# Altium footprint library Cosmos.PcbLib: 23 footprints (part 2 of 2)
Each footprint in its own frame and in the unit in brackets; x right, y up, seen from the top. Pads: shape width x height; smd on the part's side, far side on the other; paste and mask are expansions set on the pad; w line width, h text height; cw(c..) or ccw(c..) is an arc to the next point about the centre after c.
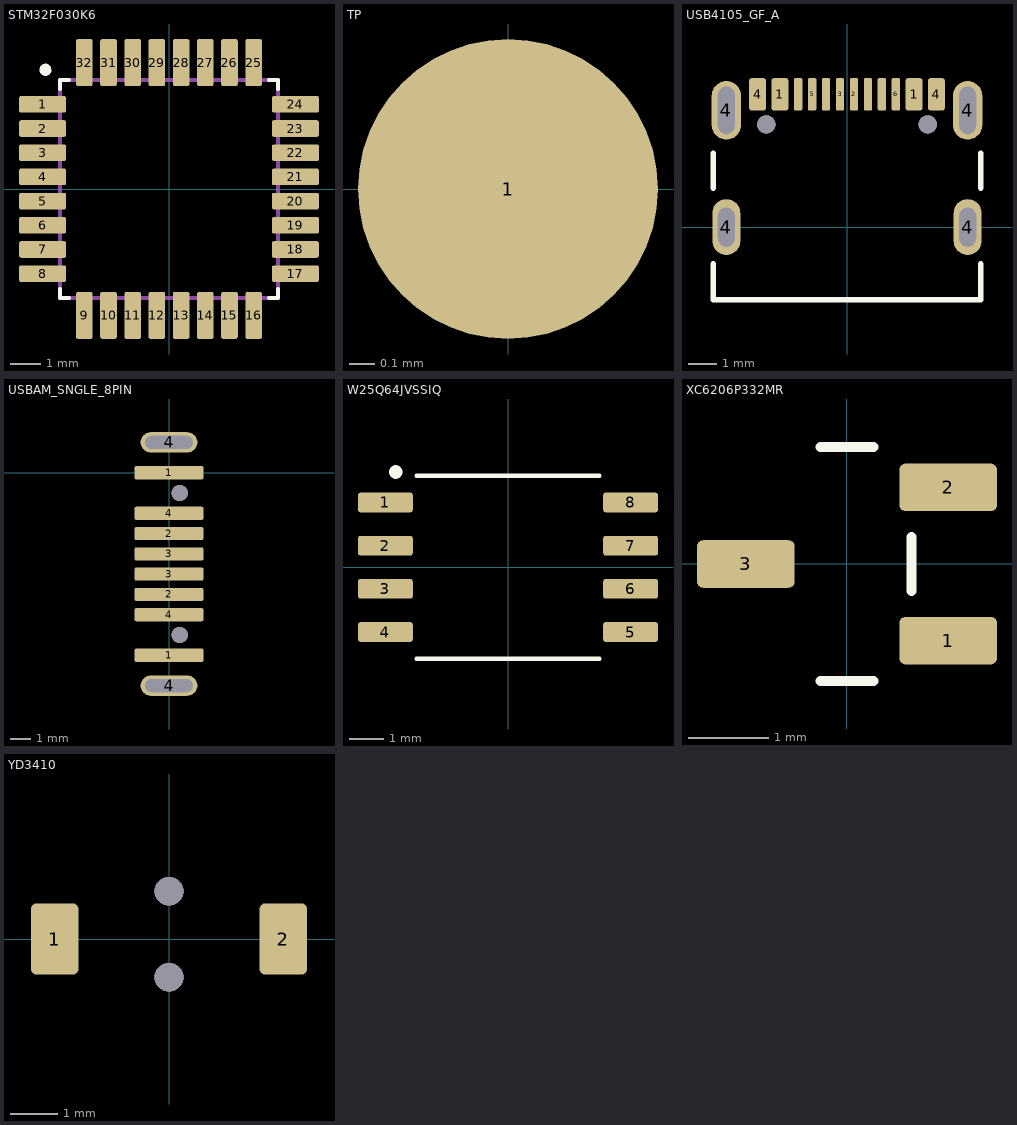
[diagram p1: the footprints below, top view; thin cyan lines are the x and y axes]

## STM32F030K6 [mm]
pads (32):
  rrect25% 1.56x0.55 smd: 1(-4.18,2.8) 2(-4.18,2) 3(-4.18,1.2) 4(-4.18,0.4) 5(-4.18,-0.4) 6(-4.18,-1.2) 7(-4.18,-2) 8(-4.18,-2.8) 17(4.18,-2.8) 18(4.18,-2) 19(4.18,-1.2) 20(4.18,-0.4) 21(4.18,0.4) 22(4.18,1.2) 23(4.18,2) 24(4.18,2.8)
  rrect25% 0.55x1.56 smd: 9(-2.8,-4.18) 10(-2,-4.18) 11(-1.2,-4.18) 12(-0.4,-4.18) 13(0.4,-4.18) 14(1.2,-4.18) 15(2,-4.18) 16(2.8,-4.18) 25(2.8,4.18) 26(2,4.18) 27(1.2,4.18) 28(0.4,4.18) 29(-0.4,4.18) 30(-1.2,4.18) 31(-2,4.18) 32(-2.8,4.18)
Top Overlay:
  lines w0.127: -3.6,-3.3 -3.6,-3.6 -3.3,-3.6 ; -3.6,3.3 -3.6,3.6 -3.3,3.6 ; 3.3,-3.6 3.6,-3.6 3.6,-3.3 ; 3.3,3.6 3.6,3.6 3.6,3.3
  lines w0.2: -4,4 ccw(c-4.082,3.942) -3.982,3.942
Mechanical 13:
  lines w0.127: -3.6,-3.6 -3.6,3.6 3.6,3.6 3.6,-3.6 -3.6,-3.6
3D body "STM32F030K6T6--3DModel-STEP-56544.STEP": height 1.63, standoff 0.03, extent -4.5,-4.5 4.5,4.5

## TP [mm] "Test point"
pads (1):
  round 1.2 smd: 1(0,0)

## USB4105_GF_A [mm]
pads (18):
  rrect25% 0.6x1.15 smd: 1(-2.4,4.755) 1(2.4,4.755) 4(-3.2,4.755) 4(3.2,4.755)
  rrect25% 0.3x1.15 smd: 2(0.25,4.755) 3(-0.25,4.755) 5(-1.25,4.755) 6(1.75,4.755) ""(-1.75,4.755) ""(-0.75,4.755) ""(0.75,4.755) ""(1.25,4.755)
  oval 1x2 hole 0.6 slot 1.4 at 90 deg: 4(-4.32,0) 4(4.32,0)
  oval 1.05x2.1 hole 0.6 slot 1.7 at 90 deg: 4(-4.32,4.18) 4(4.32,4.18)
  round 0.65 hole 0.65 unplated: ""(-2.89,3.68) ""(2.89,3.68)
Top Overlay:
  lines w0.2: -4.79,-1.32 -4.79,-2.6 4.79,-2.6 4.79,-1.32 ; -4.79,1.4 -4.79,2.65 ; 4.79,1.4 4.79,2.65
3D body "USB4105_GF_A.STEP": height 3.31, standoff -0.85, extent -4.79,-2.6 4.79,5.11

## USBAM_SNGLE_8PIN [mm] "USB TypeA, 8Pin, Double Side"
pads (12):
  rrect25% 3.4x0.65 smd: 1(0,-9) 1(0,0) 2(0,-6) 2(0,-3) 3(0,-5) 3(0,-4) 4(0,-7) 4(0,-2)
  rrect100% 2.8x1 hole 0.65 slot 2.36 at 0 deg: 4(0,-10.5) 4(0,1.5)
  round 0.8 hole 0.8: ""(0.525,-8) ""(0.525,-1)
3D body "USBAM_SINGLE_8PINS.STEP": height 2.6, standoff -2.2, extent -1.202,-10.425 15.052,1.375

## W25Q64JVSSIQ [mm]
pads (8):
  rrect25% 1.61x0.58 smd: 1(-3.605,1.905) 2(-3.605,0.635) 3(-3.605,-0.635) 4(-3.605,-1.905) 5(3.605,-1.905) 6(3.605,-0.635) 7(3.605,0.635) 8(3.605,1.905)
Top Overlay:
  circle w0.2: c-3.3,2.8 r0.1
  lines w0.127: -2.69,-2.69 2.69,-2.69 ; -2.69,2.69 2.69,2.69
3D body "SOP8.STEP": height 2, standoff 0, extent -3.9,-3.1 3.9,3.1

## XC6206P332MR [mm] "3.3V"
pads (3):
  rrect25% 1.21x0.59 smd: 1(1.255,-0.95) 2(1.255,0.95) 3(-1.255,0)
Top Overlay:
  lines w0.127: -0.33,-1.45 0.33,-1.45 ; -0.33,1.45 0.33,1.45 ; 0.8,-0.335 0.8,0.335
3D body "SOT23_3.STEP": height 1.45, standoff 0, extent -1.4,-1.45 1.4,1.45

## YD3410 [mm]
pads (2):
  rrect25% 1x1.5 smd: 1(-2.4,0) 2(2.4,0)
via 0,-0.8 diameter 0.6 hole 0.6
via 0,1 diameter 0.6 hole 0.6
3D body "YD3410.STEP": height 1.6, standoff 0, extent -2.45,-1.5 2.65,2.3